# Altium schematic symbol library input.SchLib: 9 symbols
Pins are listed as number, name and electrical type; pins without a type are passive.

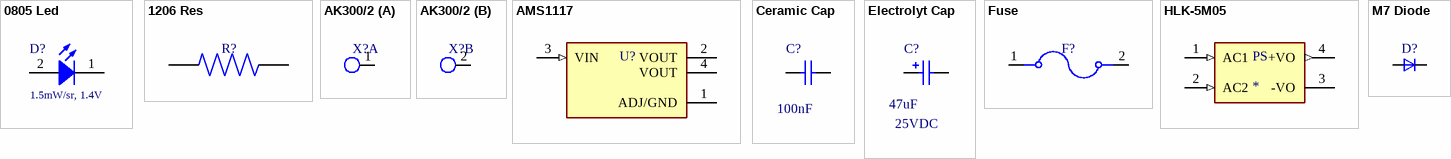
[diagram p0: symbols 0805 Led to M7 Diode]

## 0805 Led
designator D?, comment 1.5mW/sr, 1.4V
WL-SICW SMT Chip LED Infrared Waterclear, size 0805, 1.5mW/sr, 1.4V; Manufacturer Part Number: 15408085BA400; Manufacturer: Wurth Elektronik; Chip Technology: AlGaAs; Forward Voltage max.: 2V; Centroid Wavelength typ.: 845nm; Peak Wavelength typ.: 850nm; Radiant Intensity min.: 0.6mW/sr; Viewing Angle: 140deg; Radiant Intensity typ.: 1.5mW/sr; ComponentLink1Description: Manufacturer; ComponentLink1URL: http://www.we-online.de; ComponentLink2URL: https://www.we-online.com/catalog/datasheet/15408085BA400.pdf; ComponentLink2Description: Datasheet; Emitting Color: Infrared; Forward Voltage typ.: 1.4V; Mounting Technology: SMT; Operating Temperature: -40 to +85degC; Published Date: August 2020; Packaging: Tape and Reel; Size: 0805
footprint 0805_L2W1.3H0.8 (SMT Infrared Chip LED Waterclear, body 2x1.3mm)
pins: 1 K, 2 A

## 1206 Res
designator R?  (value not drawn)
Res 1206 10 Ohm 5% 1/8W Â±500ppm/Â°C Molded SMD SMD T/R; Resistance: 10; MP: FCR1206J10R; Power_Rating: .125 W; MF: TE Connectivity; DigiKey-Purchase-URL: https://snapeda.com/shop?store=DigiKey&id=988597; Package: 1206; EU_RoHS_Compliance: Compliant with Exemptions; Tolerance: 5%; Value: *; Price: None; SnapEDA_Link: https://www.snapeda.com/parts/FCR1206J10R/TE%20Connectivity%20Passive%20Product/view-part/988597/?ref=snap; Mouser-Purchase-URL: https://snapeda.com/shop?store=Mouser&id=988597; Availability: Warning
footprint 1206
pins: 1, 2

## AK300/2
designator X?  (value not drawn)
MP: AK300/3; MF: Altech; Package: None; Availability: Unavailable; SnapEDA_Link: https://www.snapeda.com/parts/AK300/3/Altech/view-part/2748485/?ref=snap; Check_prices: https://www.snapeda.com/parts/AK300/3/Altech/view-part/2748485/?ref=eda; Value: *; Price: None
footprint AK300/2
part A pins: 1 KL
part B pins: 2 KL

## AMS1117
designator U?  (value not drawn)
UNO PLUS Arduino R3 Shield, Xbee Arduino IDE Wheeled Robotics Kit; MP: AMS1117; MF: Seeed Technology; Availability: Unavailable; SnapEDA_Link: https://www.snapeda.com/parts/AMS1117/Seeed%20Technology%20Co.%2C%20Ltd/view-part/184428/?ref=snap; Price: None; Value: *; Package: SOT-223 Seeed Technology
footprint SOT229P700X180-4N
pins: 1 ADJ/GND (power), 2 VOUT (power), 3 VIN (in), 4 VOUT (power)

## Ceramic Cap
designator C?  Capacitance: 100nF
WCAP-CSGP Multilayer Ceramic Chip Capacitor, General Purpose, size 1812, X7R; Manufacturer Part Number: 885012210019; Manufacturer: Wurth Elektronik; Rated Voltage: 50VDC; Isolation Resistance: >=10GOhm; Capacitance Tolerance: +/-10%; Technical Reference: X7R1812103K050DFCT10000; ComponentLink1Description: Manufacturer; ComponentLink1URL: http://www.we-online.de; ComponentLink2Description: Datasheet; ComponentLink2URL: https://www.we-online.com/catalog/datasheet/885012210019.pdf; Operating Temperature: -55 to +125degC; Packaging: Tape and Reel; Published Date: May 2020; Ceramic Type: X7R; Dissipation Factor: =<2.5%; Height: 1.25mm; Mounting Technology: SMT; Size: 1812
footprint 0603_WAVE (Ceramic Capacitors, 0603, body 1.6x0.8mm)
pins: 1, 2

## Electrolyt Cap
designator C?  Rated Voltage: 25VDC  Capacitance: 47uF
WCAP-ASLI Aluminum Electrolytic Capacitor, V-Chip, SMT, D16xH17mm; Manufacturer Part Number: 865080163018; Manufacturer: Wurth Elektronik; Technical Reference: ASEK170682M6R3DVCTHB000; Ripple Current: 1250mA; Capacitance Tolerance: +/-20%; Leakage Current: 428.4uA; Endurance: 2000h; Dissipation Factor: 24%; Packaging: Tape and Reel; Published Date: October 2020; Operating Temperature: -55 to +105degC; Mounting Technology: SMT; Height: 17mm; ComponentLink1Description: Manufacturer; ComponentLink1URL: http://www.we-online.de; ComponentLink2Description: Datasheet; ComponentLink2URL: https://www.we-online.com/catalog/datasheet/865080163018.pdf; Diameter: 16mm
footprint D6.3H7.7 (Aluminium Electrolytic V-Chip SMT Capacitors, 6.3x7.7mm)
pins: 1 P, 2 N

## Fuse
designator F?  (value not drawn)
4A 125V AC 125V DC Fuse Board Mount _Cartridge Style Excluded_ Holder, Surface Mount 2-SMD, Square End Block with Holder; MF: Littelfuse Inc.; MP: 0154004.DR; Digi-Key_Part_Number: F1227CT-ND; SnapEDA_Link: https://www.snapeda.com/parts/0154004.DR/Littelfuse%20Inc./view-part/1215896/?ref=snap; Value: *; Digi-Key_Purchase_URL: https://www.digikey.com/product-detail/en/littelfuse-inc/0154004.DR/F1227CT-ND/183376?utm_source=snapeda&utm_medium=aggregator&utm_campaign=symbol; Package: SMD-2 Littelfuse
footprint FUSE
pins: 1, 2

## HLK-5M05
designator PS
AC DC 220V to 5V 5W 5Watt Isolated Switching Step-Down Power Supply Module Converter; MF: Hi-link; MP: HLK-5M05; Availability: Unavailable; SnapEDA_Link: https://www.snapeda.com/parts/HLK-5M05/Hi-link/view-part/2758659/?ref=snap; Price: None; Package: Package Analog Devices; Value: *
footprint HLK-5M05
pins: 1 AC1 (in), 2 AC2 (in), 3 -VO (power), 4 +VO (out)

## M7 Diode
designator D?  (value not drawn)
Diode Standard 400V 1A Surface Mount SMA _DO-214AC_; MF: ON Semiconductor; MP: S1G; Price: None; Value: *; Availability: Unavailable; SnapEDA_Link: https://www.snapeda.com/parts/S1G/ON%20Semiconductor/view-part/1474196/?ref=snap; Package: DO-214AC ON Semiconductor
footprint SMA
pins: ANNODE, CATHODE